# Altium schematic symbol library Stock_Capacitors.SchLib: 3 symbols
Pins are listed as number, name and electrical type; pins without a type are passive.

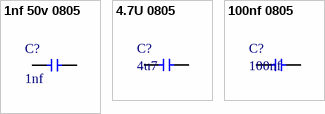
[diagram p0: symbols 1nf 50v 0805 to 100nf 0805]

## 1nf 50v 0805
designator C?, comment 1nf
1nf 50V 0805 cog_npo; Supplier 1: Farnell; Supplier Part Number 1: 1740641
footprint AVX_CAPC2012X15N (Chip Capacitor, 2-Leads, Body 2.01x1.25mm, IPC Medium Density)
pins: 1 "-ve electrode", 2 "-ve electrode"

## 4.7U 0805
designator C?, comment 4u7
Supplier 1: Farnell; Supplier Part Number 1: 2611942
footprint Murata_Chip2PinSM127P600-8N (Murata 0805 capacitor)
pins: 1 "-ve electrode", 2 "-ve electrode"

## 100nf 0805
designator C?, comment 100nf
100nf 0805; Supplier 1: Farnell; Supplier Part Number 1: 1759265RL
footprint Multicomp capacitor 0805 Chip2PinSM127P600-8N (0805 capacitor)
pins: 1 "-ve electrode", 2 "-ve electrode"